# EAGLE library part 87368-24_S (library untitled)
RECEPTACAL
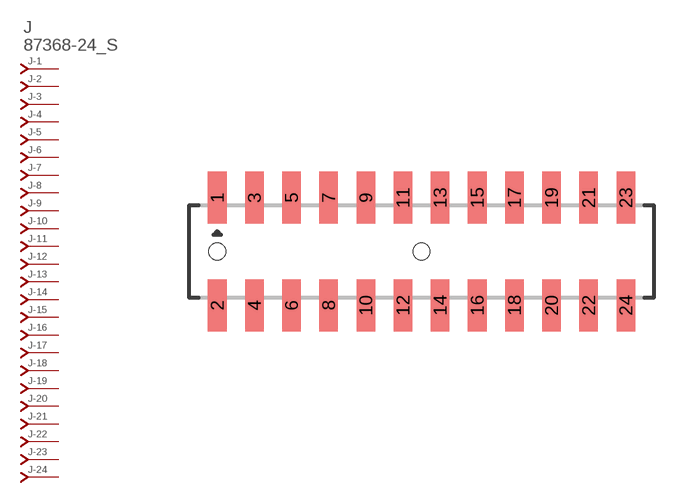
[diagram p313: symbol with the pads of 87368-24; footprint 87368-24]

Designator prefix J; gates -1=J-NV -2=J-N -3=J-N -4=J-N -5=J-N -6=J-N -7=J-N -8=J-N -9=J-N -10=J-N -11=J-N -12=J-N -13=J-N -14=J-N -15=J-N -16=J-N -17=J-N -18=J-N -19=J-N -20=J-N -21=J-N -22=J-N -23=J-N -24=J-N

## 87368-24_S  [87368-24]
1  -1:J  pas
2  -2:J  pas
3  -3:J  pas
4  -4:J  pas
5  -5:J  pas
6  -6:J  pas
7  -7:J  pas
8  -8:J  pas
9  -9:J  pas
10  -10:J  pas
11  -11:J  pas
12  -12:J  pas
13  -13:J  pas
14  -14:J  pas
15  -15:J  pas
16  -16:J  pas
17  -17:J  pas
18  -18:J  pas
19  -19:J  pas
20  -20:J  pas
21  -21:J  pas
22  -22:J  pas
23  -23:J  pas
24  -24:J  pas

## Footprint 87368-24 (pad centres in mm)
RECEPTACAL SMD Dual Row, Side Entry
smd 1 x 2.8: 1 -11,2.9; 2 -11,-2.9; 3 -9,2.9; 4 -9,-2.9; 5 -7,2.9; 6 -7,-2.9; 7 -5,2.9; 8 -5,-2.9; 9 -3,2.9; 10 -3,-2.9; 11 -1,2.9; 12 -1,-2.9; 13 1,2.9; 14 1,-2.9; 15 3,2.9; 16 3,-2.9; 17 5,2.9; 18 5,-2.9; 19 7,2.9; 20 7,-2.9; 21 9,2.9; 22 9,-2.9; 23 11,2.9; 24 11,-2.9
hole 0.914 at -11,0
hole 0.914 at 0,0